# EAGLE library part N25Q032A11E (library C3-General)
Micron 32Mb 1.8V Serial FLASH
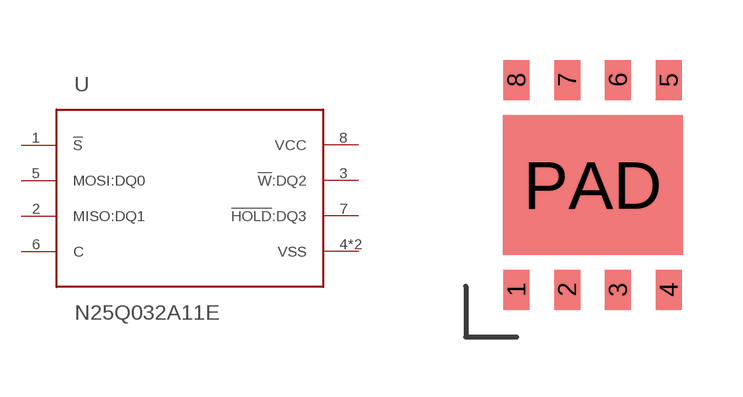
[diagram p2: symbol with the pads of MLP-6X5-8; footprint MLP-6X5-8]

Designator prefix U

## N25Q032A11EF6  [MLP-6X5-8]
1  !S  in
2  MISO:DQ1  out
3  !W!:DQ2
4  VSS  pwr
5  MOSI:DQ0  in
6  C  in
7  !HOLD!:DQ3
8  VCC  pwr
PAD  VSS  pwr

## Footprint MLP-6X5-8 (pad centres in mm)
MLP 6x5 8-lead land pattern Datasheet <http://www.fairchildsemi.com/an/AN/AN-5067.pdf>
smd 0.65 x 1: 1 -1.905,-2.625; 2 -0.635,-2.625; 3 0.635,-2.625; 4 1.905,-2.625; 5 1.905,2.625; 6 0.635,2.625; 7 -0.635,2.625; 8 -1.905,2.625
smd 4.5 x 3.5: PAD 0,0